# EAGLE library part IC_TB6612FNG (library brickster)
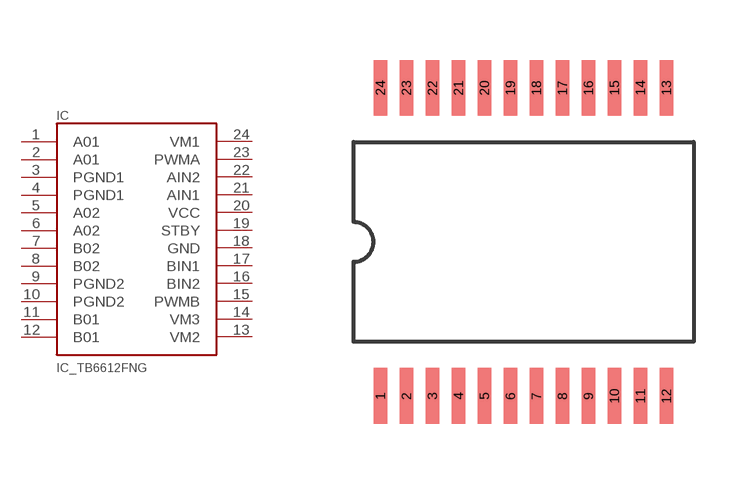
[diagram p1: symbol with the pads of SSOP24; footprint SSOP24]

Designator prefix IC

## IC_TB6612FNG  [SSOP24]
1  A01
2  A01
3  PGND1
4  PGND1
5  A02
6  A02
7  B02
8  B02
9  PGND2
10  PGND2
11  B01
12  B01
13  VM2
14  VM3
15  PWMB
16  BIN2
17  BIN1
18  GND
19  STBY
20  VCC
21  AIN1
22  AIN2
23  PWMA
24  VM1

## Footprint SSOP24 (pad centres in mm)
smd 0.348 x 1.397: 1 -3.575,-3.856; 2 -2.925,-3.856; 3 -2.275,-3.856; 4 -1.625,-3.856; 5 -0.975,-3.856; 6 -0.325,-3.856; 7 0.325,-3.856; 8 0.975,-3.856; 9 1.625,-3.856; 10 2.275,-3.856; 11 2.925,-3.856; 12 3.575,-3.856; 13 3.575,3.856; 14 2.925,3.856; 15 2.275,3.856; 16 1.625,3.856; 17 0.975,3.856; 18 0.325,3.856; 19 -0.325,3.856; 20 -0.975,3.856; 21 -1.625,3.856; 22 -2.275,3.856; 23 -2.925,3.856; 24 -3.575,3.856